# Altium footprint library JS1-12V-F.PcbLib: 1 footprints
Each footprint in its own frame and in the unit in brackets; x right, y up, seen from the top. Pads: shape width x height; smd on the part's side, far side on the other; paste and mask are expansions set on the pad; w line width, h text height; cw(c..) or ccw(c..) is an arc to the next point about the centre after c.
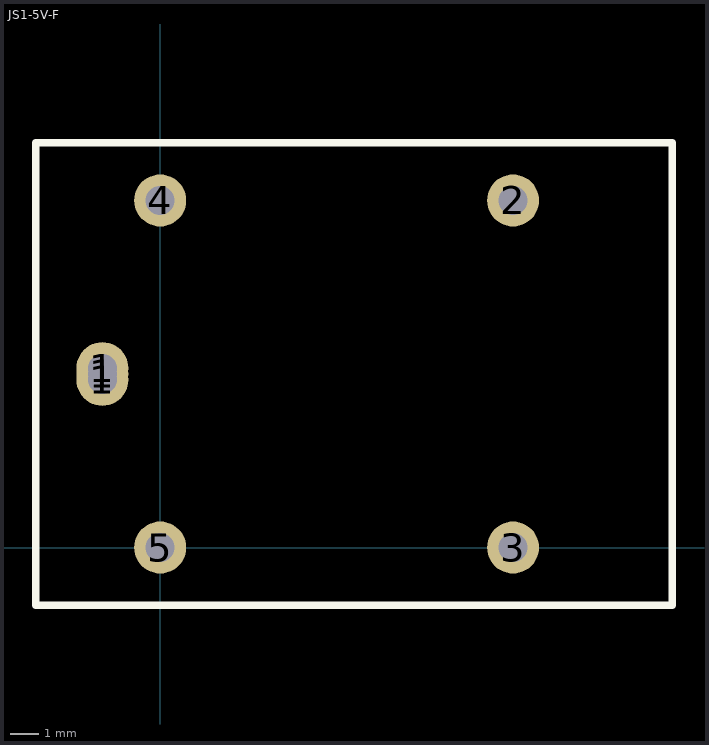
[diagram p0: the footprint, top view; thin cyan lines are the x and y axes]

## JS1-5V-F [mm] "RELAY GEN PURPOSE SPDT 10A 5V"
height 16
pads (7):
  round 1.8 hole 1: 1(-2,5.8) 1(-2,6) 1(-2,6.2) 2(12.2,12) 3(12.2,0) 4(0,12) 5(0,0)
Top Overlay:
  lines w0.254: -4.3,-2 -4.3,14 17.7,14 17.7,-2 -4.3,-2
3D body: height 16, standoff -3.9, extent -4.3,-2 17.7,14